# EAGLE library part PIC18F6*10 (library micro-pic18xxx)
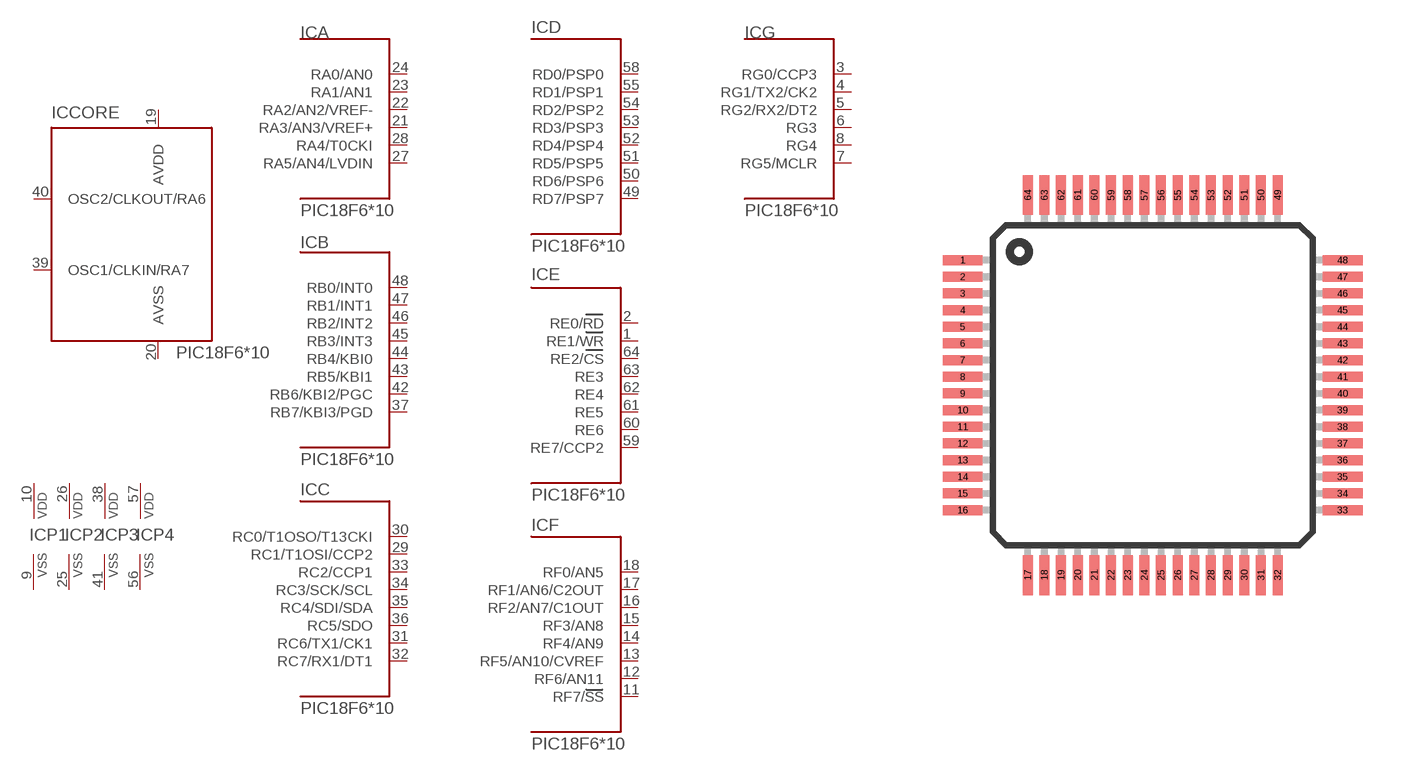
[diagram p7: symbol with the pads of TQFP64-10X10; footprint TQFP64-10X10]

Designator prefix IC; gates CORE=F6X10_CORE A=F6X_RA B=F6X10_RB C=F6X_RC D=F6X_RD E=F6X_RE F=F6X_RF G=F6X10_RG P1=GNDVCC P2=GNDVCC P3=GNDVCC P4=GNDVCC

## PIC18F6310PT, PIC18F6410PT  [TQFP64-10X10]
1  E:RE1/WR
2  E:RE0/RD
3  G:RG0/CCP3
4  G:RG1/TX2/CK2
5  G:RG2/RX2/DT2
6  G:RG3
7  G:RG5/MCLR
8  G:RG4
9  P1:VSS  pwr
10  P1:VDD  pwr
11  F:RF7/SS
12  F:RF6/AN11
13  F:RF5/AN10/CVREF
14  F:RF4/AN9
15  F:RF3/AN8
16  F:RF2/AN7/C1OUT
17  F:RF1/AN6/C2OUT
18  F:RF0/AN5
19  CORE:AVDD  pwr
20  CORE:AVSS  pwr
21  A:RA3/AN3/VREF+
22  A:RA2/AN2/VREF-
23  A:RA1/AN1
24  A:RA0/AN0
25  P2:VSS  pwr
26  P2:VDD  pwr
27  A:RA5/AN4/LVDIN
28  A:RA4/T0CKI
29  C:RC1/T1OSI/CCP2
30  C:RC0/T1OSO/T13CKI
31  C:RC6/TX1/CK1
32  C:RC7/RX1/DT1
33  C:RC2/CCP1
34  C:RC3/SCK/SCL
35  C:RC4/SDI/SDA
36  C:RC5/SDO
37  B:RB7/KBI3/PGD
38  P3:VDD  pwr
39  CORE:OSC1/CLKIN/RA7  in
40  CORE:OSC2/CLKOUT/RA6  out
41  P3:VSS  pwr
42  B:RB6/KBI2/PGC
43  B:RB5/KBI1
44  B:RB4/KBI0
45  B:RB3/INT3
46  B:RB2/INT2
47  B:RB1/INT1
48  B:RB0/INT0
49  D:RD7/PSP7
50  D:RD6/PSP6
51  D:RD5/PSP5
52  D:RD4/PSP4
53  D:RD3/PSP3
54  D:RD2/PSP2
55  D:RD1/PSP1
56  P4:VSS  pwr
57  P4:VDD  pwr
58  D:RD0/PSP0
59  E:RE7/CCP2
60  E:RE6
61  E:RE5
62  E:RE4
63  E:RE3
64  E:RE2/CS

## Footprint TQFP64-10X10 (pad centres in mm)
TQFP package type TQ
smd 1.2 x 0.3: 1 -5.7,3.75; 2 -5.7,3.25; 3 -5.7,2.75; 4 -5.7,2.25; 5 -5.7,1.75; 6 -5.7,1.25; 7 -5.7,0.75; 8 -5.7,0.25; 9 -5.7,-0.25; 10 -5.7,-0.75; 11 -5.7,-1.25; 12 -5.7,-1.75; 13 -5.7,-2.25; 14 -5.7,-2.75; 15 -5.7,-3.25; 16 -5.7,-3.75; 33 5.7,-3.75; 34 5.7,-3.25; 35 5.7,-2.75; 36 5.7,-2.25; 37 5.7,-1.75; 38 5.7,-1.25; 39 5.7,-0.75; 40 5.7,-0.25; 41 5.7,0.25; 42 5.7,0.75; 43 5.7,1.25; 44 5.7,1.75; 45 5.7,2.25; 46 5.7,2.75; 47 5.7,3.25; 48 5.7,3.75
smd 0.3 x 1.2: 17 -3.75,-5.7; 18 -3.25,-5.7; 19 -2.75,-5.7; 20 -2.25,-5.7; 21 -1.75,-5.7; 22 -1.25,-5.7; 23 -0.75,-5.7; 24 -0.25,-5.7; 25 0.25,-5.7; 26 0.75,-5.7; 27 1.25,-5.7; 28 1.75,-5.7; 29 2.25,-5.7; 30 2.75,-5.7; 31 3.25,-5.7; 32 3.75,-5.7; 49 3.75,5.7; 50 3.25,5.7; 51 2.75,5.7; 52 2.25,5.7; 53 1.75,5.7; 54 1.25,5.7; 55 0.75,5.7; 56 0.25,5.7; 57 -0.25,5.7; 58 -0.75,5.7; 59 -1.25,5.7; 60 -1.75,5.7; 61 -2.25,5.7; 62 -2.75,5.7; 63 -3.25,5.7; 64 -3.75,5.7